# Altium footprint library 8-MSOP-PP.PcbLib: 1 footprints
Each footprint in its own frame and in the unit in brackets; x right, y up, seen from the top. Pads: shape width x height; smd on the part's side, far side on the other; paste and mask are expansions set on the pad; w line width, h text height; cw(c..) or ccw(c..) is an arc to the next point about the centre after c.
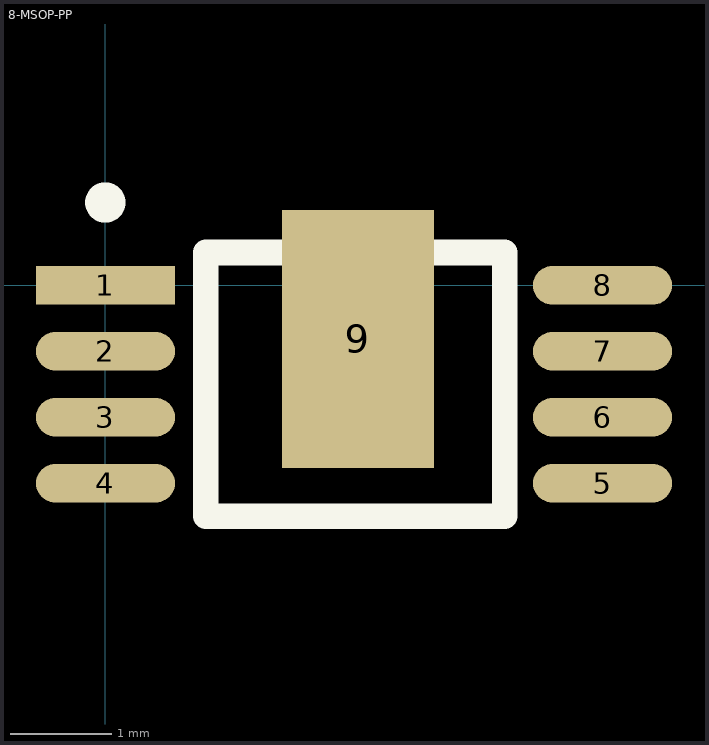
[diagram p0: the footprint, top view; thin cyan lines are the x and y axes]

## 8-MSOP-PP [mil]
pads (9):
  rect 54x15 smd: 1(0,0)
  oval 54x15 smd: 2(0,-25.6) 3(0,-51.2) 4(0,-76.8) 5(193,-76.8) 6(193,-51.2) 7(193,-25.6) 8(193,0)
  rect 59.06x100 smd mask+2.76: 9(98,-20.8)
Top Overlay:
  circle w10: c0,32.2 r2.83
  lines w10: 39,-89.6 155,-89.6 155,12.8 117,12.8 cw(c97,12.8) 77,12.8 70,12.8 39,12.8 39,-89.6
Mechanical 4:
  text ".040" at 0,0 h1
3D body: height 45.28, standoff 0, extent 2.54,-98.06 195.46,20.05